# EAGLE library part NRF51822-QFAA-T (library NRF51822-QFAA-T)
Ble / 2.4ghz Rf Soc 48-Pin 6x6mm Qfn Wit
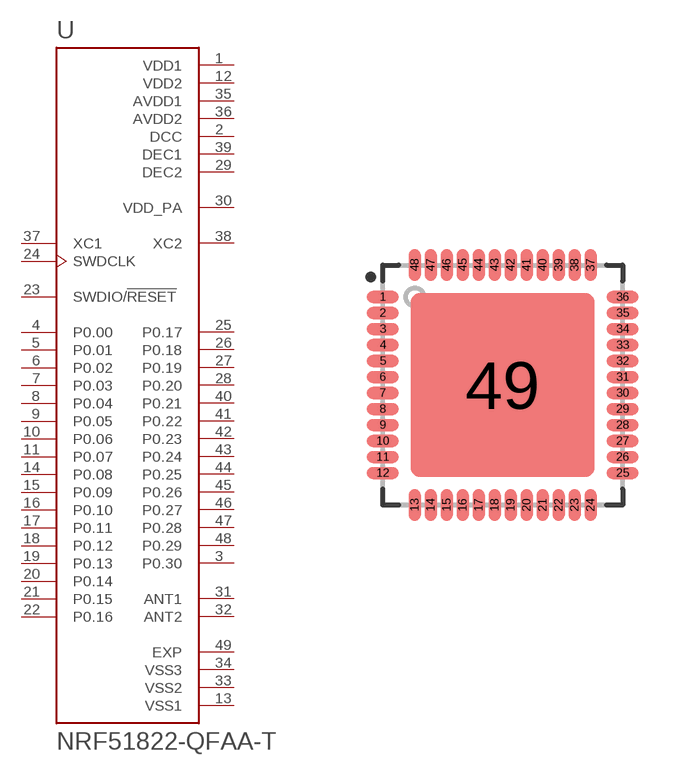
[diagram p0: symbol with the pads of QFN40P600X600X90-49N; footprint QFN40P600X600X90-49N]

Designator prefix U

## NRF51822-QFAA-T (Availability: Good; Description: Ble / 2.4ghz Rf Soc 48-Pin 6x6mm Qfn Wit; MF: Nordic Semiconductor; MP: NRF51822-QFAA-T; Package: QFN-48 Nordic Semiconductor; Price: 2.78 USD)  [QFN40P600X600X90-49N]
1  VDD1  pwr
2  DCC  pwr
3  P0.30
4  P0.00
5  P0.01
6  P0.02
7  P0.03
8  P0.04
9  P0.05
10  P0.06
11  P0.07
12  VDD2  pwr
13  VSS1  pwr
14  P0.08
15  P0.09
16  P0.10
17  P0.11
18  P0.12
19  P0.13
20  P0.14
21  P0.15
22  P0.16
23  SWDIO/!RESET
24  SWDCLK  in
25  P0.17
26  P0.18
27  P0.19
28  P0.20
29  DEC2  pwr
30  VDD_PA  out
31  ANT1  pas
32  ANT2  pas
33  VSS2  pwr
34  VSS3  pwr
35  AVDD1  pwr
36  AVDD2  pwr
37  XC1  in
38  XC2  out
39  DEC1  pwr
40  P0.21
41  P0.22
42  P0.23
43  P0.24
44  P0.25
45  P0.26
46  P0.27
47  P0.28
48  P0.29
49  EXP  pwr

## Footprint QFN40P600X600X90-49N (pad centres in mm)
smd 0.8 x 0.3: 1 -3,2.2; 2 -3,1.8; 3 -3,1.4; 4 -3,1; 5 -3,0.6; 6 -3,0.2; 7 -3,-0.2; 8 -3,-0.6; 9 -3,-1; 10 -3,-1.4; 11 -3,-1.8; 12 -3,-2.2; 25 3,-2.2; 26 3,-1.8; 27 3,-1.4; 28 3,-1; 29 3,-0.6; 30 3,-0.2; 31 3,0.2; 32 3,0.6; 33 3,1; 34 3,1.4; 35 3,1.8; 36 3,2.2
smd 0.3 x 0.8: 13 -2.2,-3; 14 -1.8,-3; 15 -1.4,-3; 16 -1,-3; 17 -0.6,-3; 18 -0.2,-3; 19 0.2,-3; 20 0.6,-3; 21 1,-3; 22 1.4,-3; 23 1.8,-3; 24 2.2,-3; 37 2.2,3; 38 1.8,3; 39 1.4,3; 40 1,3; 41 0.6,3; 42 0.2,3; 43 -0.2,3; 44 -0.6,3; 45 -1,3; 46 -1.4,3; 47 -1.8,3; 48 -2.2,3
smd 4.6 x 4.6: 49 0,0